# Altium footprint library PCB - POWER - TI- LMZ23605TZNOPB.PCBLIB: 1 footprints
Each footprint in its own frame and in the unit in brackets; x right, y up, seen from the top. Pads: shape width x height; smd on the part's side, far side on the other; paste and mask are expansions set on the pad; w line width, h text height; cw(c..) or ccw(c..) is an arc to the next point about the centre after c.
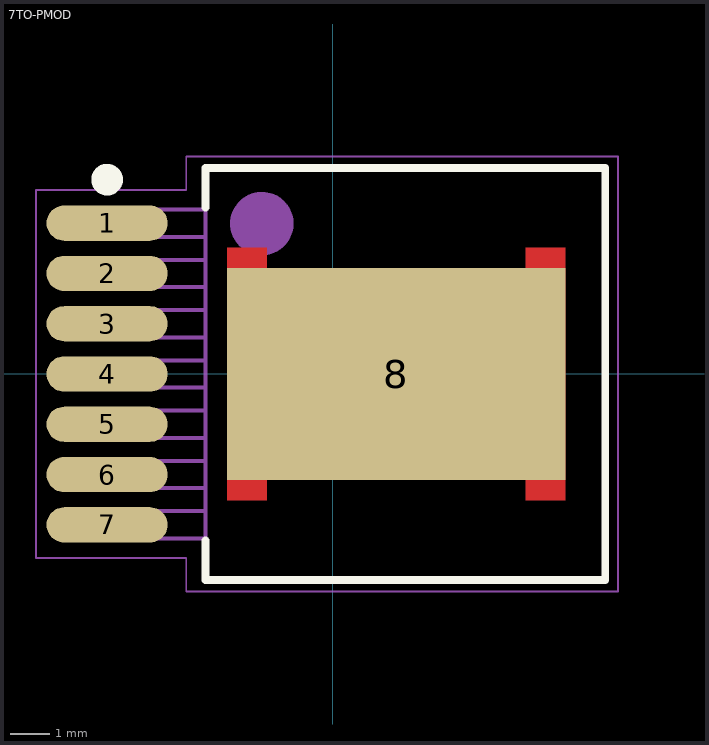
[diagram p0: the footprint, top view; thin cyan lines are the x and y axes]

## 7TO-PMOD [mm]
pads (8):
  oval 3.06x0.89 smd: 1(-5.7,3.81) 2(-5.7,2.54) 3(-5.7,1.27) 4(-5.7,0) 5(-5.7,-1.27) 6(-5.7,-2.54) 7(-5.7,-3.81)
  rect 8.54x5.35 smd: 8(1.605,0)
Top Layer:
  region: -2.665,3.2 -2.665,-3.2 -1.665,-3.2 -1.665,3.2
  region: 5.875,-3.2 5.875,3.2 4.875,3.2 4.875,-3.2
Top Overlay:
  circle w0.4: c-5.7,4.91 r0.2
  lines w0.2: -3.215,-4.205 -3.215,-5.205 6.885,-5.205 6.885,5.205 -3.215,5.205 -3.215,4.205
Top Assembly:
  circle w0.8: c-1.79,3.8 r0.4
  lines w0.1: -6.89,-4.155 -3.215,-4.155 ; -6.89,-3.465 -3.215,-3.465 ; -6.89,-2.885 -3.215,-2.885 ; -6.89,-2.195 -3.215,-2.195 ; -6.89,-1.615 -3.215,-1.615 ; -6.89,-0.925 -3.215,-0.925 ; -6.89,-0.345 -3.215,-0.345 ; -6.89,0.345 -3.215,0.345 ; -6.89,0.925 -3.215,0.925 ; -6.89,1.615 -3.215,1.615 ; -6.89,2.195 -3.215,2.195 ; -6.89,2.885 -3.215,2.885 ; -6.89,3.465 -3.215,3.465 ; -6.89,4.155 -3.215,4.155 ; -6.885,-4.155 -6.885,-3.465 ; -6.885,-2.885 -6.885,-2.195 ; -6.885,-1.615 -6.885,-0.925 ; -6.885,-0.345 -6.885,0.345 ; -6.885,0.925 -6.885,1.615 ; -6.885,2.195 -6.885,2.885 ; -6.885,3.465 -6.885,4.155 ; -4.79,-4.155 -4.79,-3.465 ; -4.79,-2.885 -4.79,-2.195 ; -4.79,-1.615 -4.79,-0.925 ; -4.79,-0.345 -4.79,0.345 ; -4.79,0.93 -4.79,1.615 ; -4.79,2.205 -4.79,2.885 ; -4.79,3.465 -4.79,4.155 ; -3.215,-5.205 6.885,-5.205 6.885,5.205 -3.215,5.205 -3.215,-5.205
Top Courtyard:
  lines w0.05: -7.5,-4.65 -3.7,-4.65 -3.7,-5.5 7.2,-5.5 7.2,5.5 -3.7,5.5 -3.7,4.65 -7.5,4.65 -7.5,-4.65
Top Designator:
  text ".Designator" at -3.975,6.225 h1
Top Component Center:
  lines w0.05: -0.5,0 0.5,0 ; 0,-0.5 0,0.5
3D body "NDW0007A.stp": height 4.77, standoff 0, extent -6.885,-5.08 6.885,5.08
3D body: height 4.8, standoff 0, extent -2.14,2.275 -0.14,4.275